# Altium schematic symbol library MYLIB.SchLib: 9 symbols
Pins are listed as number, name and electrical type; pins without a type are passive.

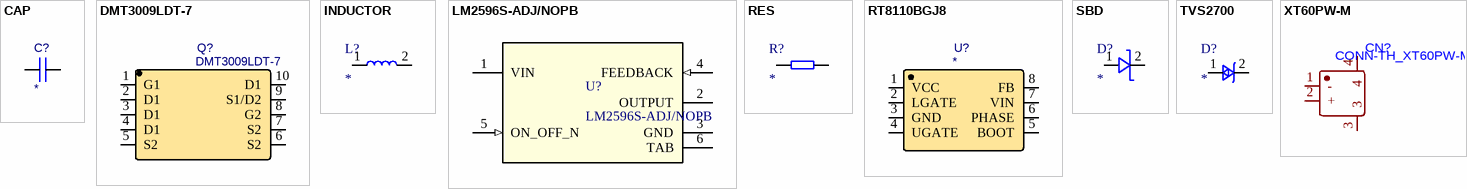
[diagram p0: symbols CAP to XT60PW-M]

## CAP
designator C?
BOM_Manufacturer: TDK; BOM_Manufacturer Part: C3216X5R1E476MTJ00E; nameAlias: Capacitance; BOM_Supplier: LCSC; BOM_Supplier Part: C76659; spicePre: C; spiceSymbolName: C3216X5R1E476MTJ00E
footprint 0805C (Chip Capacitor, 2-Leads, Body 2.00x1.20mm, IPC Medium Density)
footprint 1206C
footprint 0402C
footprint 0603C
pins: 1, 2

## DMT3009LDT-7
designator Q?
BOM_Manufacturer: Diodes Incorporated; Contributor: LCSC; BOM_Supplier: LCSC; BOM_Supplier Part: C155503; BOM_Manufacturer Part: DMT3009LDT-7; spicePre: Q; spiceSymbolName: DMT3009LDT-7
footprint IC8_DMT3009LDT-7_DIO-M
pins: 1 G1, 2 D1, 3 D1, 4 D1, 5 S2, 6 S2, 7 S2, 8 G2, 9 S1/D2, 10 D1

## INDUCTOR
designator L?
footprint 1206L
footprint 0805L
footprint 0603L
footprint 0402L
pins: 1, 2

## LM2596S-ADJ/NOPB
designator U?
No Description Available; Mfr_Name: Texas Instruments; PartNumber: LM2596SX-ADJ/NOPB; CompType: IC; Type: DEV; RefDes: RefDes; Copyright: Copyright (C) 2021 Ultra Librarian. All rights reserved.; Manufacturer_Part_Number: LM2596S-ADJ/NOPB; Digi-Key_Part_Number_1: LM2596S-ADJ/NOPB-CRL-ND; Digi-Key_Part_Number_2: LM2596S-ADJ/NOPB-ND; Digi-Key_Part_Number_3: 2156-LM2596S-ADJ/NOPB-ND; Digi-Key_Part_Number_4: 2156-LM2596S-ADJ/NOPB-TI-ND; Alternate_PartNumber: LM2596S-ADJ/NOPB; PackageReference: KTT0005B; MountType: SMT; RoHS: Y; Manufacturer: Texas Instruments
footprint TO-263-5
pins: 1 VIN (power), 2 OUTPUT (power), 3 GND (power), 4 FEEDBACK (in), 5 ON_OFF_N (in), 6 TAB (power)

## RES
designator R?
footprint 1206R
footprint 0805R
footprint 0603R
footprint 0402R
pins: 1, 2

## RT8110BGJ8
designator U?
C27917; BOM_Manufacturer: RICHTEK; BOM_Manufacturer Part: RT8110BGJ8; SMT Type: Extend; Package Display: Yes; BOM_Supplier: LCSC; BOM_Supplier Part: C27917; BOM_LCSC Assembly: Yes; spicePre: U; spiceSymbolName: RT8110BGJ8
footprint TSOP65P280X100-8N (TSOP, 8-Leads, Body 2.90x1.60mm, Pitch 0.65mm, IPC Medium Density)
pins: 1 VCC, 2 LGATE, 3 GND, 4 UGATE, 5 BOOT, 6 PHASE, 7 VIN, 8 FB

## SBD
designator D?
肖特基二极管
footprint SOD323
footprint SOD123
pins: 1, 2

## TVS2700
designator D?
浪涌保护器
footprint SON65P200X80_HS-7N (SON, 6-Leads, Body 2.00x2.00mm, Pitch 0.65mm, Thermal Pad 1.60x0.89mm, IPC Medium Density); pin to pad 1>1+2+3 2>4+5+6
pins: 1, 2

## XT60PW-M
designator CN?, comment CONN-TH_XT60PW-M
C98732
footprint CONN-TH_XT60PW-M
pins: 1 -, 2 +, 3, 4